# EAGLE library part SP483ECP-L (library Exar_By_element14_Batch_1)
RS-485 Transceivers
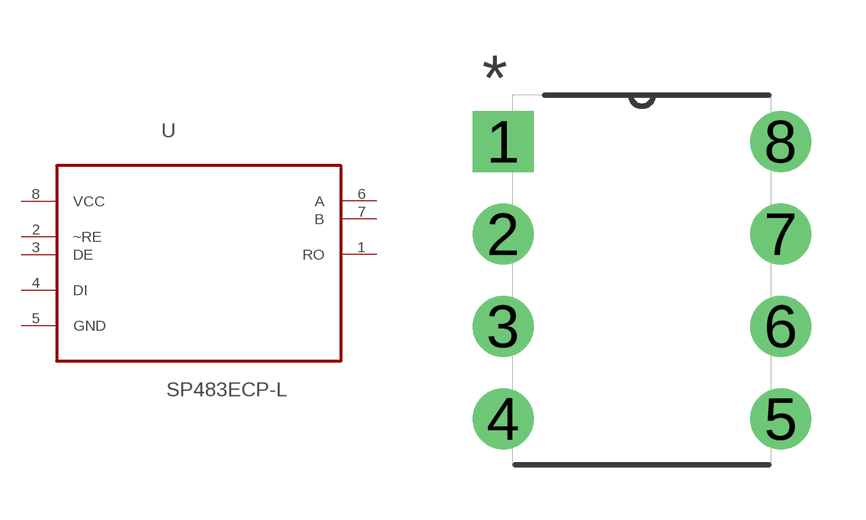
[diagram p44: symbol with the pads of DIP254P762X533-8; footprint DIP254P762X533-8]

Designator prefix U

## SP483ECP-L (MPN: SP483ECP-L; OC_FARNELL: 9387137; OC_NEWARK: 24R0563; PACKAGE: PDIP; SUPPLIER: EXAR)  [DIP254P762X533-8]
1  RO  out
2  ~RE  in
3  DE  in
4  DI  in
5  GND  pas
6  A
7  B
8  VCC  pwr

## Footprint DIP254P762X533-8 (pad centres in mm)
drill 1.118 square: 1 -7.62,7.62
drill 1.118: 2 -7.62,5.08; 3 -7.62,2.54; 4 -7.62,0; 5 0,0; 6 0,2.54; 7 0,5.08; 8 0,7.62